# EAGLE library part TPS54719 (library TPS54719)
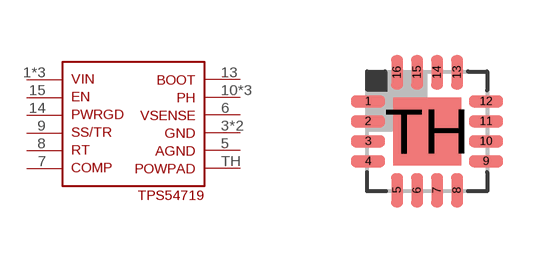
[diagram p0: symbol with the pads of QFN16; footprint QFN16]

Designator prefix -

## TPS54719  [QFN16]
1  V_IN
2  V_IN
3  GND
4  GND
5  AGND
6  VSNS
7  COMP
8  RT
9  SS/TR
10  PH
11  PH
12  PH
13  BOOT
14  PWRGD
15  EN
16  V_IN
TH  PPAD

## Footprint QFN16 (pad centres in mm)
RTE (S-PQFP-N16) 3x3 mm Source: www.ti.com .. tpa6132a2 direct path stereo $.65.pdf
smd 0.85 x 0.3: 1 -1.475,0.75; 2 -1.475,0.25; 3 -1.475,-0.25; 4 -1.475,-0.75; 9 1.475,-0.75; 10 1.475,-0.25; 11 1.475,0.25; 12 1.475,0.75
smd 0.3 x 0.85: 5 -0.75,-1.475; 6 -0.25,-1.475; 7 0.25,-1.475; 8 0.75,-1.475; 13 0.75,1.475; 14 0.25,1.475; 15 -0.25,1.475; 16 -0.75,1.475
smd 1.7 x 1.7: TH 0,0